# Altium schematic symbol library BME688.SchLib: 1 symbol
Pins are listed as number, name and electrical type; pins without a type are passive.

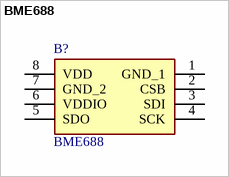
[diagram p0: symbol BME688]

## BME688
designator B?
Gas sensor measuring relative humidity, barometric pressure, ambient temperature and gas (VOC); Manufacturer_Name: BOSCH; Geometry.Height: 1mm; Manufacturer_Part_Number: BME688; Mouser Part Number: 262-BME688; Mouser Price/Stock: https://www.mouser.co.uk/ProductDetail/Bosch-Sensortec/BME688?qs=IS%252B4QmGtzzqQoVDscqwx3A%3D%3D; Arrow Part Number: BME688; Arrow Price/Stock: https://www.arrow.com/en/products/bme688/bosch-sensortec?utm_currency=USD&region=nac; Datasheet Link: https://www.bosch-sensortec.com/media/boschsensortec/downloads/datasheets/bst-bme688-ds000.pdf
footprint BME688
pins: 1 GND_1, 2 CSB, 3 SDI, 4 SCK, 5 SDO, 6 VDDIO, 7 GND_2, 8 VDD